# Altium schematic symbol library MHQ1005P2N7CT000.SchLib: 1 symbol
Pins are listed as number, name and electrical type; pins without a type are passive.

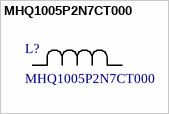
[diagram p0: symbol MHQ1005P2N7CT000]

## MHQ1005P2N7CT000
designator L?
No Description Available; Manufacturer_Name: TDK; Copyright: Copyright (C) 2026 Ultra Librarian. All rights reserved.; Manufacturer_Part_Number: MHQ1005P2N7CT000
footprint IND_1005_TDK
pins: 1, 2